# Altium integrated library Библеотека компонентов для проекта ПУК-404-19.IntLib: 4 symbols
Pins are listed as number, name and electrical type; pins without a type are passive.

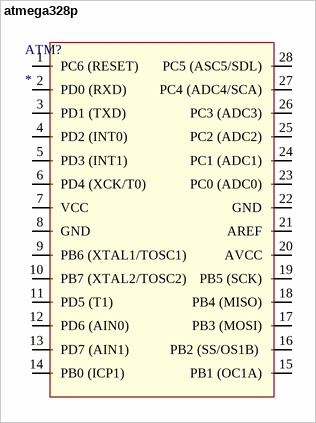
[diagram p0: symbol atmega328p]

## atmega328p
designator ATM?
footprint ATmega328/P (SOJ, 28-Leads, Body 34,60x7,94mm, Pitch 2,54mm, IPC Low Density)
pins: 1 PC6 (RESET) "RESET", 2 PD0 (RXD) "RXD", 3 PD1 (TXD) "TXD", 4 PD2 (INT0) "INT0", 5 PD3 (INT1) "INT1", 6 PD4 (XCK/T0) "XCK/T0", 7 VCC, 8 GND, 9 PB6 (XTAL1/TOSC1)  "XTAL1/TOSC1", 10 PB7 (XTAL2/TOSC2)  "XTAL2/TOSC2", 11 PD5 (T1) "T1", 12 PD6 (AIN0) "AIN0", 13 PD7 (AIN1) "AIN1", 14 PB0 (ICP1) "ICP1", 15 PB1 (OC1A) "OC1A", 16 PB2 (SS/OS1B)  "SS/OS1B", 17 PB3 (MOSI) "MOSI", 18 PB4 (MISO) "MISO", 19 PB5 (SCK) "SCK", 20 AVCC, 21 AREF, 22 GND, 23 PC0 (ADC0) "ADC0", 24 PC1 (ADC1) "ADC1", 25 PC2 (ADC2) "ADC2", 26 PC3 (ADC3) "ADC3", 27 PC4 (ADC4/SCA) "ADC4/SCA", 28 PC5 (ASC5/SDL) "ASC5/SDL"


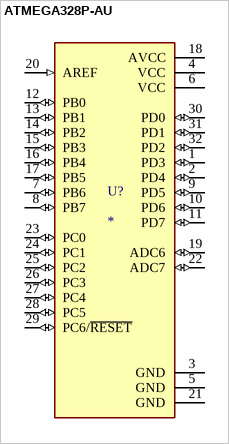
[diagram p1: symbol ATMEGA328P-AU]

## ATMEGA328P-AU
designator U?
AVR AVRÂ® ATmega Microcontroller IC 8-Bit 20MHz 32KB (16K x 16) FLASH 32-TQFP (7x7); MP: ATMEGA328P-AU; MF: Microchip Technology; Value: *; SnapEDA_Link: https://www.snapeda.com/parts/ATMEGA328P-AU/Microchip/view-part/?ref=snap; Purchase-URL: https://pricing.snapeda.com/search/part/ATMEGA328P-AU/?ref=eda; Check_prices: https://www.snapeda.com/parts/ATMEGA328P-AU/Microchip/view-part/?ref=eda; Availability: In Stock; Price: None; Package: TQFP-32 Microchip
footprint QFP80P900X900X120-32N
pins: 1 PD3 (io), 2 PD4 (io), 3 GND (power), 4 VCC (power), 5 GND (power), 6 VCC (power), 7 PB6 (io), 8 PB7 (io), 9 PD5 (io), 10 PD6 (io), 11 PD7 (io), 12 PB0 (io), 13 PB1 (io), 14 PB2 (io), 15 PB3 (io), 16 PB4 (io), 17 PB5 (io), 18 AVCC (power), 19 ADC6 (io), 20 AREF (in), 21 GND (power), 22 ADC7 (io), 23 PC0 (io), 24 PC1 (io), 25 PC2 (io), 26 PC3 (io), 27 PC4 (io), 28 PC5 (io), 29 PC6/~{RESET} (io), 30 PD0 (io), 31 PD1 (io), 32 PD2 (io)


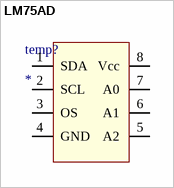
[diagram p2: symbol LM75AD]

## LM75AD
designator temp?
footprint ЛМ75А (8-контактных корпусов: SO8 и TSSOP8)
pins: 1 SDA, 2 SCL, 3 OS, 4 GND, 5 A2, 6 A1, 7 A0, 8 Vcc


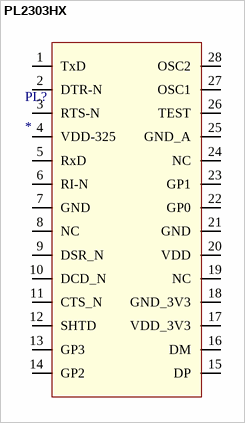
[diagram p3: symbol PL2303HX]

## PL2303HX
designator PL?
footprint PL2303HX (SSOP, 28-Leads, Body 10,20x5,30mm, Pitch 0,65mm)
pins: 1 TxD, 2 DTR-N, 3 RTS-N, 4 VDD-325, 5 RxD, 6 RI-N, 7 GND, 8 NC, 9 DSR_N, 10 DCD_N, 11 CTS_N, 12 SHTD, 13 GP3, 14 GP2, 15 DP, 16 DM, 17 VDD_3V3, 18 GND_3V3, 19 NC, 20 VDD, 21 GND, 22 GP0, 23 GP1, 24 NC, 25 GND_A, 26 TEST, 27 OSC1, 28 OSC2